# Altium footprint library BD140.PcbLib: 1 footprints
Each footprint in its own frame and in the unit in brackets; x right, y up, seen from the top. Pads: shape width x height; smd on the part's side, far side on the other; paste and mask are expansions set on the pad; w line width, h text height; cw(c..) or ccw(c..) is an arc to the next point about the centre after c.
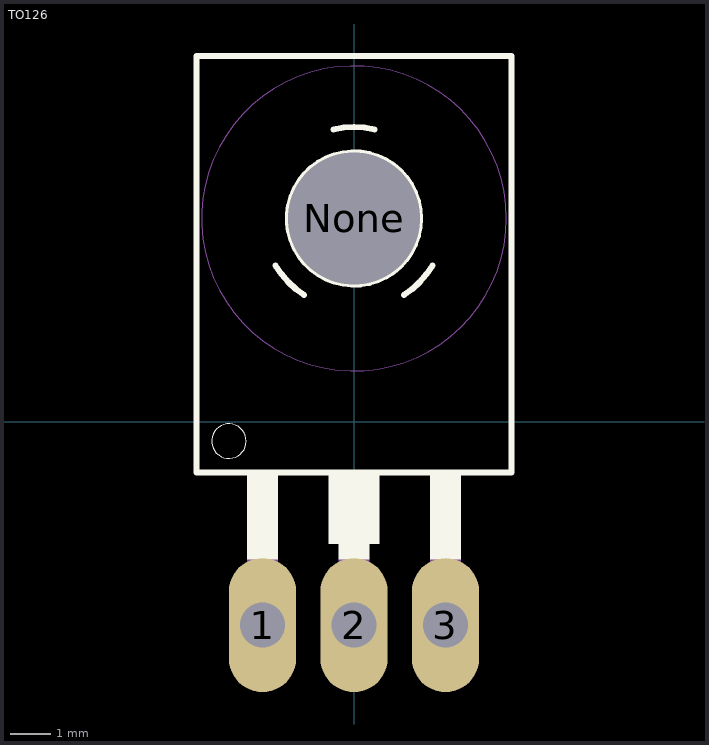
[diagram p0: the footprint, top view; thin cyan lines are the x and y axes]

## TO126 [mil]
pads (4):
  oval 66x132 hole 44: 1(-90,-200) 2(0,-200) 3(90,-200)
  round 130 hole 130 unplated: None(0,200)
Top Overlay:
  circle w6: c0,200 r65
  circle w0: c-123,-19 r17
  region: 75.09,-50 105,-50 105,-135.17 75.09,-135.17
  region: -15.02,-50 15,-50 15,-135.17 -15.02,-135.17
  region: -105.09,-50 -75,-50 -75,-135.12 -105.09,-135.12
  region: -25.04,-50 25,-50 25,-120.19 -25.04,-120.19
  lines w6: -77.14,153.66 ccw(c0.01,200.01) -49.01,124.53 ; -20.25,287.7 cw(c0,200.01) 20.25,287.7 ; 49.01,124.52 ccw(c-0.01,200) 77.14,153.65 ; -155,-50 155,-50 155,360 -155,360 -155,-50
Mechanical 4:
  circle w0: c0,200 r150
  circle w0: c0,200 r150
  circle w0: c0,200 r150
  circle w0: c0,200 r150
  region: 75.14,-135 105,-135 105,-205.38 75.14,-205.38
  region: -15.03,-135 15,-135 15,-205.35 -15.03,-205.35
  region: -105.19,-135 -75,-135 -75,-205.36 -105.19,-205.36
  region: 75.14,-135 105,-135 105,-205.38 75.14,-205.38
  region: -15.03,-135 15,-135 15,-205.35 -15.03,-205.35
  region: -105.19,-135 -75,-135 -75,-205.36 -105.19,-205.36
  text "3" at 70.12,-44.9 h73.82
  text "2" at -20,-44.85 h73.82
  text "1" at -100.07,-44.87 h73.82
  text "3" at 70.12,-44.9 h73.82
  text "2" at -20,-44.85 h73.82
  text "1" at -100.07,-44.87 h73.82